# Altium footprint library Passives.PcbLib: 25 footprints (part 1 of 2)
Each footprint in its own frame and in the unit in brackets; x right, y up, seen from the top. Pads: shape width x height; smd on the part's side, far side on the other; paste and mask are expansions set on the pad; w line width, h text height; cw(c..) or ccw(c..) is an arc to the next point about the centre after c.
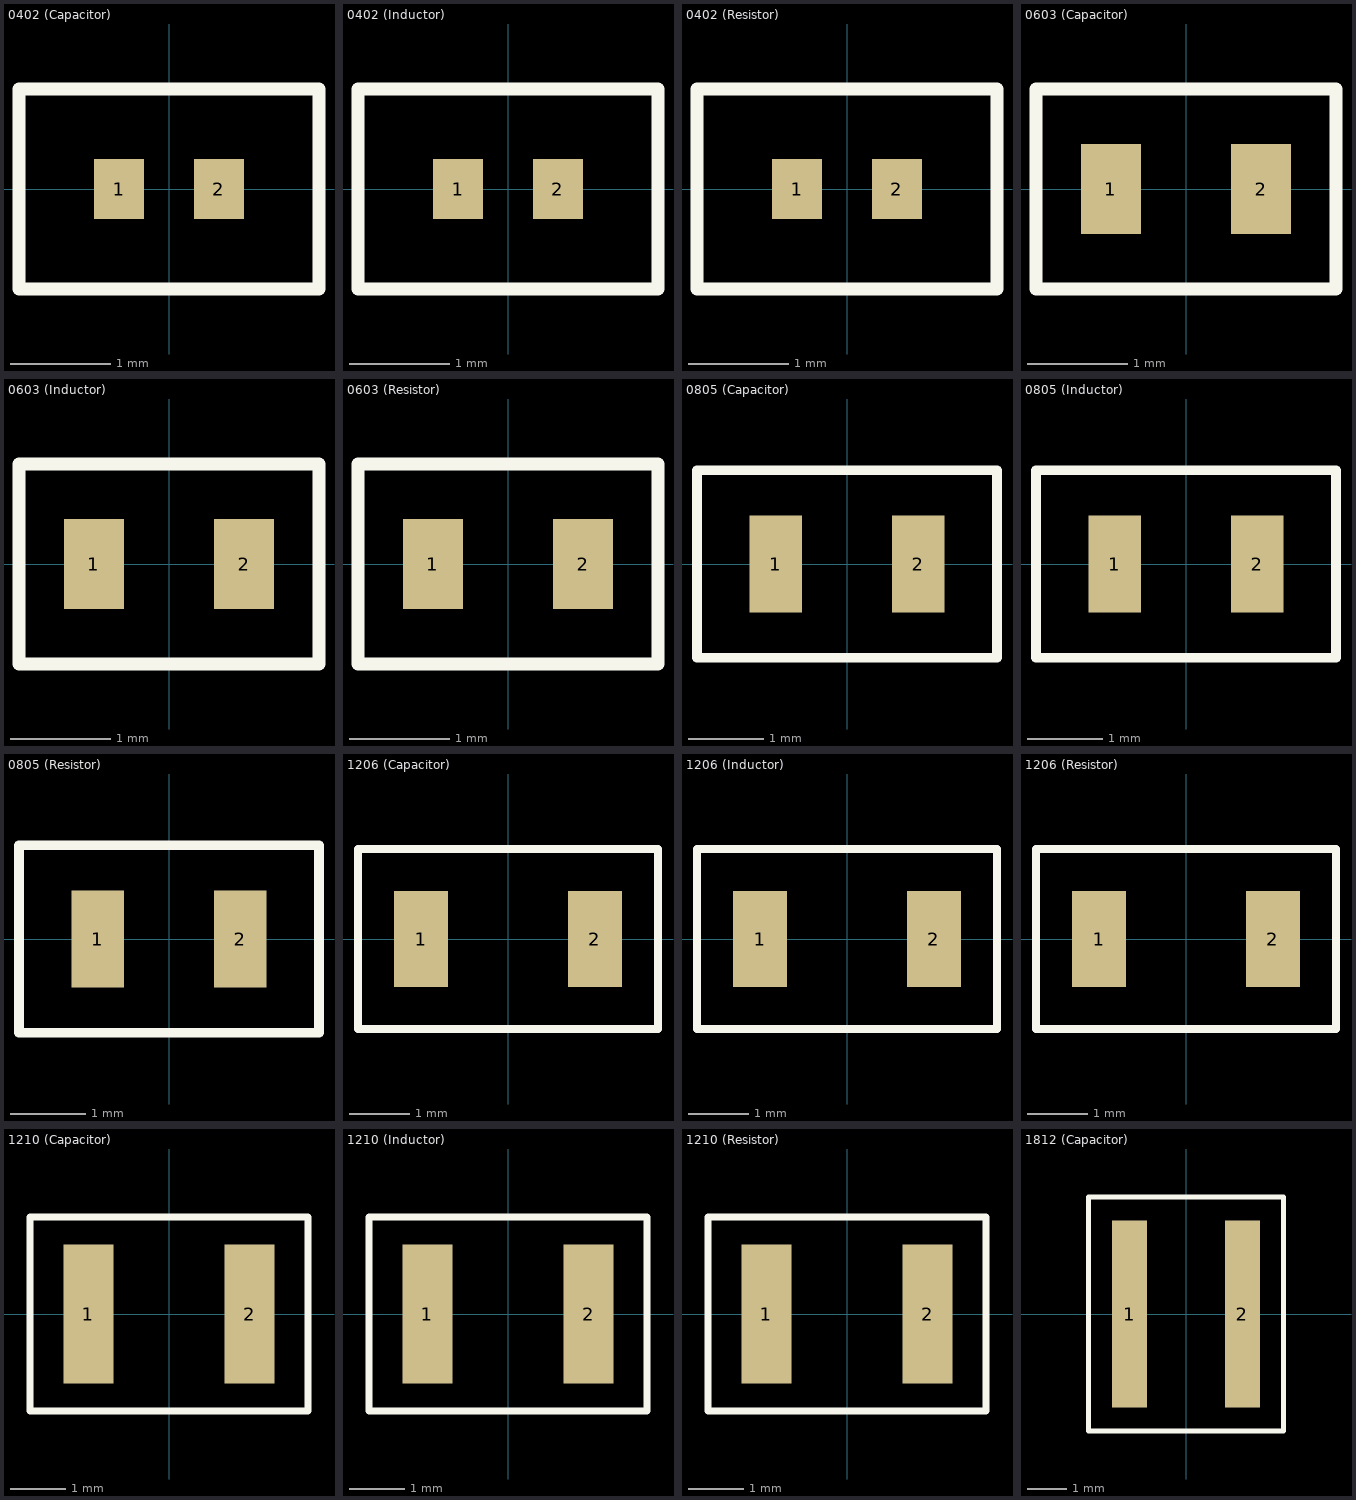
[diagram p0: the footprints below, top view; thin cyan lines are the x and y axes]

## 0402 (Capacitor) [mm]
pads (2):
  rect 0.5x0.6 smd mask+0.05: 1(-0.5,0) 2(0.5,0)
Top Overlay:
  lines w0.127: -1.5,-1 -1.5,1 -1,1 1.5,1 1.5,-1 -1.5,-1
3D body: height 0.35, standoff 0.05, extent -0.5,-0.25 0.5,0.25

## 0402 (Inductor) [mm]
pads (2):
  rect 0.5x0.6 smd mask+0.05: 1(-0.5,0) 2(0.5,0)
Top Overlay:
  lines w0.127: -1.5,-1 1.5,-1 1.5,1 -1,1 -1.5,1 -1.5,-1
3D body: height 0.35, standoff 0.05, extent -0.5,-0.25 0.5,0.25

## 0402 (Resistor) [mm]
pads (2):
  rect 0.5x0.6 smd mask+0.05: 1(-0.5,0) 2(0.5,0)
Top Overlay:
  lines w0.127: -1.5,-1 -1.5,1 -1,1 1.5,1 1.5,-1 -1.5,-1
3D body: height 0.35, standoff 0.05, extent -0.5,-0.25 0.5,0.25

## 0603 (Capacitor) [mm]
pads (2):
  rect 0.6x0.9 smd mask+0.05: 1(-0.75,0) 2(0.75,0)
Top Overlay:
  lines w0.127: -1.5,-1 1.5,-1 1.5,1 -1.5,1 -1.5,-1
3D body: height 0.45, standoff 0.05, extent -0.775,-0.425 0.775,0.425

## 0603 (Inductor) [mm]
pads (2):
  rect 0.6x0.9 smd mask+0.05: 1(-0.75,0) 2(0.75,0)
Top Overlay:
  lines w0.127: -1.5,-1 -1.5,1 1.5,1 1.5,-1 -1.5,-1
3D body: height 0.45, standoff 0.05, extent -0.775,-0.425 0.775,0.425

## 0603 (Resistor) [mm]
pads (2):
  rect 0.6x0.9 smd mask+0.05: 1(-0.75,0) 2(0.75,0)
Top Overlay:
  lines w0.127: -1.5,-1 -1.5,1 1.5,1 1.5,-1 -1.5,-1
3D body: height 0.45, standoff 0.05, extent -0.775,-0.425 0.775,0.425

## 0805 (Capacitor) [mm]
pads (2):
  rect 0.7x1.3 smd mask+0.05: 1(-0.95,0) 2(0.95,0)
Top Overlay:
  lines w0.127: -2,-1.25 -2,1.25 -1.5,1.25 2,1.25 2,-1.25 -2,-1.25
3D body: height 0.45, standoff 0.05, extent -1,-0.6 1,0.6

## 0805 (Inductor) [mm]
pads (2):
  rect 0.7x1.3 smd mask+0.05: 1(-0.95,0) 2(0.95,0)
Top Overlay:
  lines w0.127: -2,-1.25 2,-1.25 2,1.25 -1.5,1.25 -2,1.25 -2,-1.25
3D body: height 0.45, standoff 0.05, extent -1,-0.6 1,0.6

## 0805 (Resistor) [mm]
pads (2):
  rect 0.7x1.3 smd mask+0.05: 1(-0.95,0) 2(0.95,0)
Top Overlay:
  lines w0.127: -2,-1.25 -2,1.25 -1.5,1.25 2,1.25 2,-1.25 -2,-1.25
3D body: height 0.45, standoff 0.05, extent -1,-0.6 1,0.6

## 1206 (Capacitor) [mm]
pads (2):
  rect 0.9x1.6 smd mask+0.05: 1(-1.45,0) 2(1.45,0)
Top Overlay:
  lines w0.127: -2.5,-1.5 2.5,-1.5 2.5,1.5 -2.5,1.5 -2.5,-1.5
3D body: height 0.55, standoff 0.05, extent -1.6,-0.8 1.6,0.8

## 1206 (Inductor) [mm]
pads (2):
  rect 0.9x1.6 smd mask+0.05: 1(-1.45,0) 2(1.45,0)
Top Overlay:
  lines w0.127: -2.5,-1.5 2.5,-1.5 2.5,1.5 -2.5,1.5 -2.5,-1.5
3D body: height 0.55, standoff 0.05, extent -1.6,-0.8 1.6,0.8

## 1206 (Resistor) [mm]
pads (2):
  rect 0.9x1.6 smd mask+0.05: 1(-1.45,0) 2(1.45,0)
Top Overlay:
  lines w0.127: -2.5,-1.5 -2.5,1.5 2.5,1.5 2.5,-1.5 -2.5,-1.5
3D body: height 0.55, standoff 0.05, extent -1.6,-0.8 1.6,0.8

## 1210 (Capacitor) [mm]
pads (2):
  rect 0.9x2.5 smd mask+0.05: 1(-1.45,0) 2(1.45,0)
Top Overlay:
  lines w0.127: -2.5,-1.75 -2.5,1.75 2.5,1.75 2.5,-1.75 -2.5,-1.75
3D body: height 0.55, standoff 0.05, extent -1.6,-1.25 1.6,1.25

## 1210 (Inductor) [mm]
pads (2):
  rect 0.9x2.5 smd mask+0.05: 1(-1.45,0) 2(1.45,0)
Top Overlay:
  lines w0.127: -2.5,-1.75 2.5,-1.75 2.5,1.75 -2.5,1.75 -2.5,-1.75
3D body: height 0.55, standoff 0.05, extent -1.6,-1.25 1.6,1.25

## 1210 (Resistor) [mm]
pads (2):
  rect 0.9x2.5 smd mask+0.05: 1(-1.45,0) 2(1.45,0)
Top Overlay:
  lines w0.127: -2.5,-1.75 2.5,-1.75 2.5,1.75 -2.5,1.75 -2.5,-1.75
3D body: height 0.55, standoff 0.05, extent -1.6,-1.25 1.6,1.25

## 1812 (Capacitor) [mm]
pads (2):
  rect 0.9x4.8 smd mask+0.05: 1(-1.45,0) 2(1.45,0)
Top Overlay:
  lines w0.127: -2.5,-3 -2.5,3 2.5,3 2.5,-3 -2.5,-3
3D body: height 0.25, standoff 0.05, extent -1.6,-2.3 1.6,2.3